# Altium integrated library tpi_carte_electronique_didactique_PittetL02.IntLib: 18 symbols
Pins are listed as number, name and electrical type; pins without a type are passive.

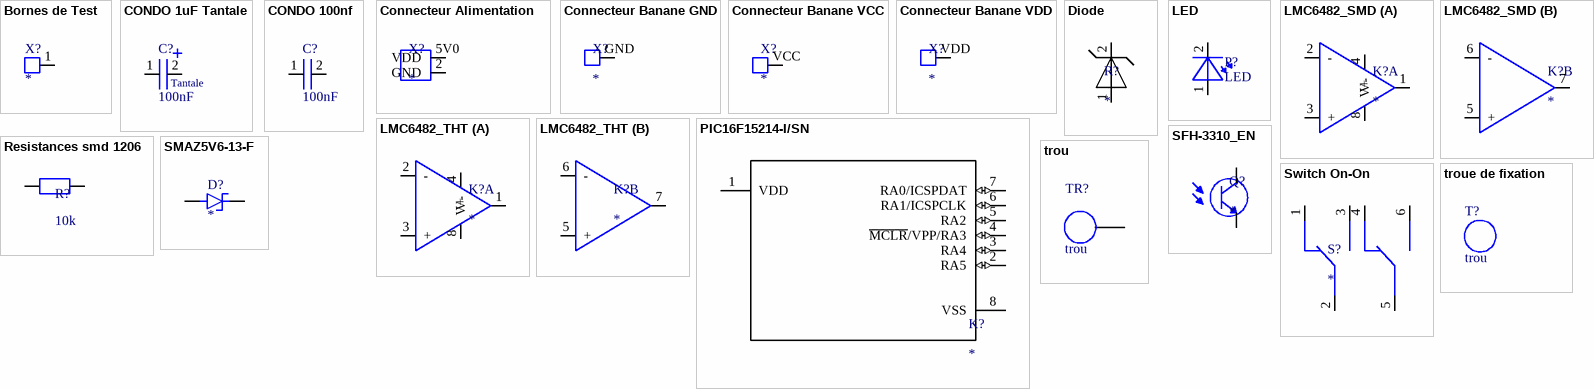
[diagram p0: symbols Bornes de Test to troue de fixation]

## Bornes de Test
designator X?
Fiches plates pour point de test / mesure
footprint Bornes de test
pins: 1

## CONDO 1uF Tantale
designator C?, comment 100nF
0805
footprint C_0805 tantale (Condensateur 0805)
pins: 1, 2
text: Tantale

## CONDO 100nf
designator C?, comment 100nF
0805
footprint C_0805 ceramique (Condensateur 0805)
pins: 1, 2

## Connecteur Alimentation
designator X?
footprint Connecteur Alimentation
pins: 2 GND, 5V0 VDD

## Connecteur Banane GND
designator X?
footprint CT3151-0 (Connecteur banane GND)
pins: GND

## Connecteur Banane VCC
designator X?
footprint CT3151-2
pins: VCC

## Connecteur Banane VDD
designator X?
footprint CT3151-4 (Connecteur banane VDD)
pins: VDD

## Diode
designator R?
Protection d'inversion de polarité
footprint Diode Protection
pins: 1, 2

## LED
designator P?
footprint LED
pins: 1, 2

## LMC6482_SMD
designator K?
footprint LMC6482_SMD
part A pins: 1, 2 -, 3 +, 4 V-, 8 V+
part B pins: 5 +, 6 -, 7 1

## LMC6482_THT
designator K?
footprint LMC6482_THT
part A pins: 1, 2 -, 3 +, 4 V-, 8 V+
part B pins: 5 +, 6 -, 7

## PIC16F15214-I/SN
designator K?
footprint PIC16F15214-I/SN
pins: 1 VDD, 2 RA5 (io), 3 RA4 (io), 4 ~{MCLR}/VPP/RA3 (io), 5 RA2 (io), 6 RA1/ICSPCLK (io), 7 RA0/ICSPDAT (io), 8 VSS

## Resistances smd 1206
designator R?, comment 10k
Resistance 1206; Part Number: ERA6AEB472V; Manufacturer: Panasonic; Manufacturer Part Number 1: ERA-6AEB472V; Manufacturer 1: Panasonic
footprint Resistances 1206 (Chip Resistor, 1206)
pins: 1, 2
1 alternate drawing of the same symbol

## SFH-3310_EN
designator Q?
Photo-transistor
footprint SFH-3310_EN (Photo-transistor NPN)
pins: 1 E, 2 C

## SMAZ5V6-13-F
designator D?
Diode zener; MF: {'manufacturer': u'Diodes Incorporated'}; MP: SMAZ5V6-13-F; Package: None; Price: None; Value: *; Availability: Unavailable
footprint DIOM5226X240N
pins: 1 K, 2 A

## Switch On-On
designator S?
Switch on-on de côté
footprint Slide Switches (Sub-Miniature Slide Switches)
pins: 1, 2, 3, 4, 5, 6

## trou
designator TR?
footprint trou
pins: 1 78

## troue de fixation
designator T?, comment trou
footprint troue de fixation